# EAGLE library part LTC4353 (library HyTechDevices)
Linear Technology LTC4353 Datasheet <https://www.google.com/url?sa=t&rct=j&q=&esrc=s&source=web&cd=&ved=2ahUKEwjB2Mq3r6PtAhUuw1kKHS63AOIQFjAAegQIAhAC&url=https%3A%2F%2Fwww.analog.com%2Fmedia%2Fen%2Ftechnical-documentation%2Fdata-sheets%2F4353f.pdf&usg=AOvVaw3V7d_oBxXMIf61WbbZKYEB>
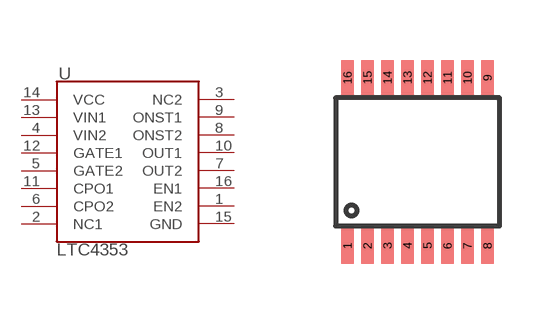
[diagram p48: symbol with the pads of MSOP-16; footprint MSOP-16]

Designator prefix -

## LTC4353  [MSOP-16]
1  EN2
2  NC1
3  NC2
4  VIN2
5  GATE2
6  CPO2
7  OUT2
8  ONST2
9  ONST1
10  OUT1
11  CPO1
12  GATE1
13  VIN1
14  VCC
15  GND
16  EN1

## Footprint MSOP-16 (pad centres in mm)
smd 0.305 x 0.889: 1 -0.1,-0.5; 2 0.4,-0.5; 3 0.9,-0.5; 4 1.4,-0.5; 5 1.9,-0.5; 6 2.4,-0.5; 7 2.9,-0.5; 8 3.4,-0.5; 9 3.4,3.7; 10 2.9,3.7; 11 2.4,3.7; 12 1.9,3.7; 13 1.4,3.7; 14 0.9,3.7; 15 0.4,3.7; 16 -0.1,3.7